# EAGLE library part A3909 (library esbd-chips)
A3909 Allegro Microchips Dual Full Bridge Motor Driver
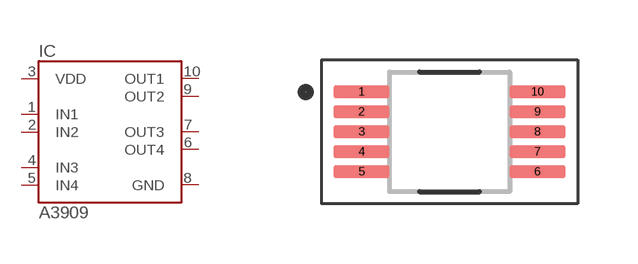
[diagram p18: symbol with the pads of SOP10_3.00X3.00MM; footprint SOP10_3.00X3.00MM]

Designator prefix IC

## A3909LN  [SOP10_3.00X3.00MM]
1  IN1  in
2  IN2  in
3  VDD  pwr
4  IN3  in
5  IN4  in
6  OUT4  out
7  OUT3  out
8  GND  pwr
9  OUT2  out
10  OUT1  out

## Footprint SOP10_3.00X3.00MM (pad centres in mm)
https://ww1.microchip.com/downloads/en/DeviceDoc/10L-MSOP-3x3-mm-MS-C04-00021f.pdf
smd 1.4 x 0.3: 1 -2.2,1; 2 -2.2,0.5; 3 -2.2,0; 4 -2.2,-0.5; 5 -2.2,-1; 6 2.2,-1; 7 2.2,-0.5; 8 2.2,0; 9 2.2,0.5; 10 2.2,1